# EAGLE library part DECADE-7SEGMENT1.5 (library DECADE-libraries)
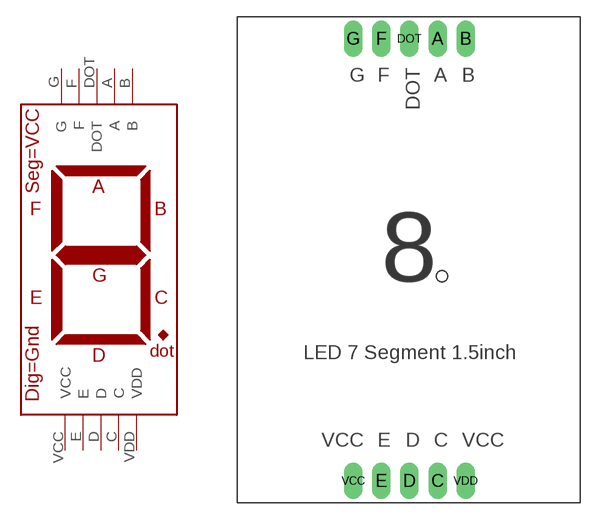
[diagram p1: symbol with the pads of DECADE-7SEGMENT1.5; footprint DECADE-7SEGMENT1.5]

Designator prefix -

## DECADE-7SEGMENT1.5  [DECADE-7SEGMENT1.5]
A  A
B  B
C  C
D  D
DOT  DOT
E  E
F  F
G  G
VCC  VCC
VDD  VDD

## Footprint DECADE-7SEGMENT1.5 (pad centres in mm)
今華電子的1.5吋七段顯示器，共陽 FJ5101BS
drill 1.1 long: A 18.12,42; B 20.66,42; C 18.12,2; D 15.58,2; DOT 15.58,42; E 13.04,2; F 13.04,42; G 10.5,42; VCC 10.5,2; VDD 20.66,2